# EAGLE library part PIC24FJ*GB002 (library MCU)
IC MCU 16BIT 32/64KB FLASH 28-Pin 28/44-Pin, 16-Bit, Flash Microcontrollers with USB On-The-Go (OTG) and nanoWatt XLP Technology Datasheet <http://ww1.microchip.com/downloads/en/DeviceDoc/39940d.pdf>
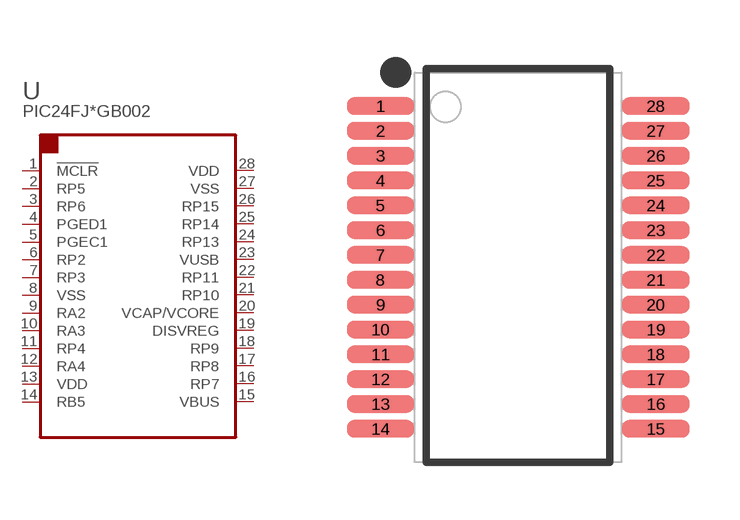
[diagram p12: symbol with the pads of SSOP-28; footprint SSOP-28]

Designator prefix U

## PIC24FJ32GB002-I/SS (MFPN: PIC24FJ32GB002-I/SS), PIC24FJ64GB002-I/SS (MFPN: PIC24FJ64GB002-I/SS)  [SSOP-28]
1  !MCLR
2  RP5
3  RP6
4  PGED1
5  PGEC1
6  RP2
7  RP3
8  VSS  pwr
9  RA2
10  RA3
11  RP4
12  RA4
13  VDD  pwr
14  RB5
15  VBUS  pwr
16  RP7
17  RP8
18  RP9
19  DISVREG  pwr
20  VCAP/VCORE  pwr
21  RP10
22  RP11
23  VUSB  pwr
24  RP13
25  RP14
26  RP15
27  VSS  pwr
28  VDD  pwr

## Footprint SSOP-28 (pad centres in mm)
SSOP, 28-Leads, Body 10.20x5.30mm, Pitch 0.65mm, IPC Medium Density
smd 1.75 x 0.45: 1 -3.6,4.225; 2 -3.6,3.575; 3 -3.6,2.925; 4 -3.6,2.275; 5 -3.6,1.625; 6 -3.6,0.975; 7 -3.6,0.325; 8 -3.6,-0.325; 9 -3.6,-0.975; 10 -3.6,-1.625; 11 -3.6,-2.275; 12 -3.6,-2.925; 13 -3.6,-3.575; 14 -3.6,-4.225; 15 3.6,-4.225; 16 3.6,-3.575; 17 3.6,-2.925; 18 3.6,-2.275; 19 3.6,-1.625; 20 3.6,-0.975; 21 3.6,-0.325; 22 3.6,0.325; 23 3.6,0.975; 24 3.6,1.625; 25 3.6,2.275; 26 3.6,2.925; 27 3.6,3.575; 28 3.6,4.225